# EAGLE library part MCP4452-104E/ST (library MCP4452)
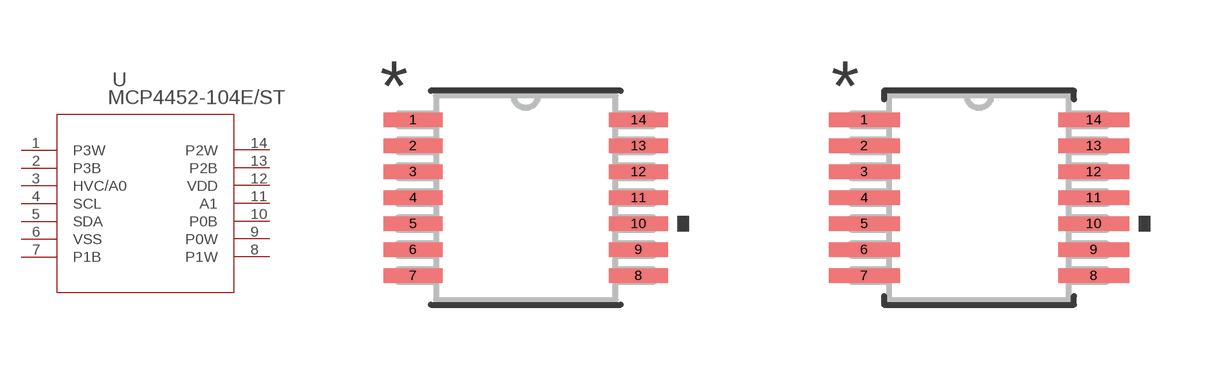
[diagram p0: symbol with the pads of TSSOP14_MC_MCH; footprints TSSOP14_MC_MCH, TSSOP14_MC_MCH-M]

Designator prefix U

## MCP4452-104E/STTSSOP14_MC_MCH (Copyright: Copyright (C) 2023 Ultra Librarian. All rights reserved.; Manufacturer_Part_Number: MCP4452-104E/ST; Mfr_Name: Microchip)  [TSSOP14_MC_MCH]
1  P3W  pas
2  P3B  pas
3  HVC/A0  in
4  SCL  in
5  SDA  in
6  VSS  pwr
7  P1B  pas
8  P1W  pas
9  P0W  pas
10  P0B  pas
11  A1  in
12  VDD  pwr
13  P2B  pas
14  P2W  pas

## MCP4452-104E/STTSSOP14_MC_MCH-M (Copyright: Copyright (C) 2023 Ultra Librarian. All rights reserved.; Manufacturer_Part_Number: MCP4452-104E/ST; Mfr_Name: Microchip)  [TSSOP14_MC_MCH-M]
Pads as for TSSOP14_MC_MCH

## MCP4452-104E/STTSSOP14_MC_MCH-L (Copyright: Copyright (C) 2023 Ultra Librarian. All rights reserved.; Manufacturer_Part_Number: MCP4452-104E/ST; Mfr_Name: Microchip)  [TSSOP14_MC_MCH-L]
Pads as for TSSOP14_MC_MCH

## Footprint TSSOP14_MC_MCH (pad centres in mm)
smd 1.473 x 0.356: 1 -2.819,1.95; 2 -2.819,1.3; 3 -2.819,0.65; 4 -2.819,0; 5 -2.819,-0.65; 6 -2.819,-1.3; 7 -2.819,-1.95; 8 2.819,-1.95; 9 2.819,-1.3; 10 2.819,-0.65; 11 2.819,0; 12 2.819,0.65; 13 2.819,1.3; 14 2.819,1.95

## Footprint TSSOP14_MC_MCH-M (pad centres in mm)
smd 1.778 x 0.356: 1 -2.87,1.95; 2 -2.87,1.3; 3 -2.87,0.65; 4 -2.87,0; 5 -2.87,-0.65; 6 -2.87,-1.3; 7 -2.87,-1.95; 8 2.87,-1.95; 9 2.87,-1.3; 10 2.87,-0.65; 11 2.87,0; 12 2.87,0.65; 13 2.87,1.3; 14 2.87,1.95

## Footprint TSSOP14_MC_MCH-L (pad centres in mm)
smd 1.168 x 0.305: 1 -2.769,1.95; 2 -2.769,1.3; 3 -2.769,0.65; 4 -2.769,0; 5 -2.769,-0.65; 6 -2.769,-1.3; 7 -2.769,-1.95; 8 2.769,-1.95; 9 2.769,-1.3; 10 2.769,-0.65; 11 2.769,0; 12 2.769,0.65; 13 2.769,1.3; 14 2.769,1.95